# Altium schematic symbol library PFC-120W-Sch-Lib.SchLib: 27 symbols
Pins are listed as number, name and electrical type; pins without a type are passive.

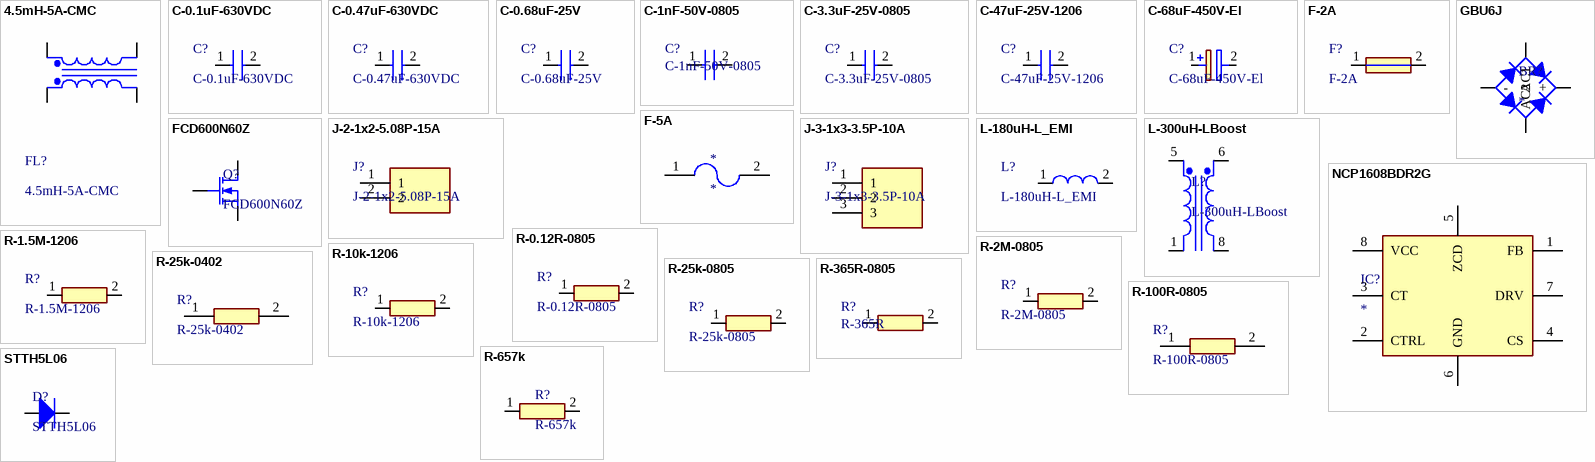
[diagram p0: symbols 4.5mH-5A-CMC to STTH5L06]

## 4.5mH-5A-CMC
designator FL?
Filter; Manufacturer_Name: Kemet; Manufacturer_Part_Number: SC-05-E45JH; Datasheet Link: https://www.mouser.ca/datasheet/2/212/1/KEM_LF0010_SC-JH-1104039.pdf; Height: 21mm; Arrow Part Number: SC-05-E45JH; Mouser Part Number: 80-SC-05-E45JH; Mouser Price/Stock: https://www.mouser.co.uk/ProductDetail/KEMET/SC-05-E45JH?qs=PzGy0jfpSMt0Gme%2FtVncCQ%3D%3D
footprint SC05E45JH
pins: 1, 2, 3, 4

## C-0.1uF-630VDC
designator C?
Capacitor; Manufacturer_Name: Vishay; Manufacturer_Part_Number: BFC233923104; Datasheet Link: https://www.vishay.com/docs/28138/mkp339x2.pdf; Height: 11mm; Arrow Part Number: BFC233923104; Arrow Price/Stock: https://www.arrow.com/en/products/bfc233923104/vishay; Mouser Part Number: 594-2222-339-23104; Mouser Price/Stock: https://www.mouser.co.uk/ProductDetail/Vishay-BC-Components/BFC233923104?qs=ISnuAD7LFbI3phV4%252BcMAWg%3D%3D
footprint BFC233923104
pins: 1, 2

## C-0.47uF-630VDC
designator C?
Capacitor; Manufacturer_Name: Panasonic; Manufacturer_Part_Number: ECW-FA2J474JC; Datasheet Link: https://industrial.panasonic.com/cdbs/www-data/pdf/RDI0000/ABD0000C183.pdf; Height: 16.6mm; Arrow Part Number: ECW-FA2J474JC; Mouser Part Number: N/A; Mouser Price/Stock: https://www.mouser.com/Search/Refine.aspx?Keyword=N%2FA
footprint ECWFA2J474JC
pins: 1, 2

## C-0.68uF-25V
designator C?
Capacitor; Manufacturer_Name: TDK; Manufacturer_Part_Number: C2012X8R1E684K125AC; Datasheet Link: https://product.tdk.com/info/en/catalog/datasheets/mlcc_commercial_midvoltage_en.pdf; Height: 1.45mm; Arrow Part Number: C2012X8R1E684K125AC; Mouser Part Number: 810-C212X8684K125AC; Mouser Price/Stock: https://www.mouser.com/Search/Refine.aspx?Keyword=810-C212X8684K125AC
footprint CAPC2012X145N
pins: 1, 2

## C-1nF-50V-0805
designator C?
Capacitor; Manufacturer_Name: Wurth Elektronik; Manufacturer_Part_Number: 885382207004; Description: Multilayer Ceramic Chip Capacitor WCAP-CSST Series 0805 1000pF X7R0805102K050DFCT1S000; Datasheet Link: https://katalog.we-online.com/pbs/datasheet/885382207004.pdf; Height: 1.35mm; Arrow Part Number: 885382207004; Mouser Part Number: 710-885382207004; Mouser Price/Stock: https://www.mouser.co.uk/ProductDetail/Wurth-Elektronik/885382207004?qs=0lSvoLzn4L%2FZU7nl%252BtmUHg%3D%3D
footprint CAPC2012X135N
pins: 1, 2

## C-3.3uF-25V-0805
designator C?
Capacitor; Manufacturer_Name: TDK; Manufacturer_Part_Number: C2012X7R1E335M125AB; Datasheet Link: https://product.tdk.com/info/en/catalog/datasheets/mlcc_commercial_midvoltage_en.pdf; Height: 1.45mm; Arrow Part Number: C2012X7R1E335M125AB; Mouser Part Number: 810-C2012X7R1E335M; Mouser Price/Stock: https://www.mouser.com/Search/Refine.aspx?Keyword=810-C2012X7R1E335M
footprint CAPC2012X145N
pins: 1, 2

## C-47uF-25V-1206
designator C?
Capacitor; Manufacturer_Name: TDK; Manufacturer_Part_Number: C3216X5R1E476M160AC; Datasheet Link: https://product.tdk.com/info/en/catalog/datasheets/mlcc_commercial_midvoltage_en.pdf; Height: 1.8mm; Arrow Part Number: C3216X5R1E476M160AC; Arrow Price/Stock: https://www.arrow.com/en/products/c3216x5r1e476m160ac/tdk; Mouser Part Number: 810-C3216X5R1E476M; Mouser Price/Stock: https://www.mouser.co.uk/ProductDetail/TDK/C3216X5R1E476M160AC?qs=NRhsANhppD%252BqapdVvBvu4Q%3D%3D
footprint CAPC3216X180N
pins: 1, 2

## C-68uF-450V-El
designator C?
Capacitor Polarised; Manufacturer_Name: Nichicon; Manufacturer_Part_Number: UVY2W680MHD; Datasheet Link: https://www.mouser.in/datasheet/2/293/e-uvy-1315204.pdf; Height: 37.5mm; Arrow Part Number: UVY2W680MHD
footprint CAPPRD750W80D1825H3750
pins: 1 +, 2 -

## F-2A
designator F?
Fuse; Manufacturer_Name: LITTELFUSE; Manufacturer_Part_Number: 0461002.ERT; Datasheet Link: https://www.littelfuse.com/~/media/electronics/datasheets/fuses/littelfuse_fuse_461_datasheet.pdf.pdf; Height: 3.12mm; Arrow Part Number: 0461002.ERT; Mouser Part Number: 576-0461002.ERT; Mouser Price/Stock: https://www.mouser.com/Search/Refine.aspx?Keyword=576-0461002.ERT
footprint FUSC10131X312N
pins: 1, 2

## F-5A
designator *
Fuse
pins: 1, 2

## FCD600N60Z
designator Q?
N-Mosfet; Manufacturer: ON Semiconductor; Datasheet: https://www.onsemi.com/pub/Collateral/FCD600N60Z-D.pdf; Manufacturer Part Number: FCD600N60Z
footprint DPAK-FCD600N60Z
pins: D, G, S

## GBU6J
designator BR?
Bridge Rectifier; Manufacturer_Name: GeneSiC Semiconductor; Manufacturer_Part_Number: GBU6J; Datasheet Link: https://www.diodemodule.com/silicon_products/bridge_rectifiers/gbu6j.pdf; Height: 18.8mm; Arrow Part Number: GBU6J; Arrow Price/Stock: https://www.arrow.com/en/products/gbu6j/genesic-semiconductor; Mouser Part Number: 905-GBU6J; Mouser Price/Stock: https://www.mouser.com/Search/Refine.aspx?Keyword=905-GBU6J
footprint GBU6J
pins: 1 +, 2 AC1, 3 AC2, 4 -

## J-2-1x2-5.08P-15A
designator J?
Connector; Manufacturer_Name: On-Shore Technology; Manufacturer_Part_Number: EDZ250/2; Datasheet Link: https://media.digikey.com/pdf/Data%20Sheets/On%20Shore%20PDFs/EDZ250.pdf; Height: 10mm; Arrow Part Number: EDZ250/2; Arrow Price/Stock: https://www.arrow.com/en/products/edz2502/on-shore-technology
footprint RHDR2W90P0X508_1X2_1066X810X1000P
pins: 1, 2

## J-3-1x3-3.5P-10A
designator J?
Connector; Manufacturer_Name: Wurth Elektronik; Manufacturer_Part_Number: 691214110003; Datasheet Link: https://katalog.we-online.de/em/datasheet/6912141100xx.pdf; Height: 8.5mm; Arrow Part Number: 691214110003; Mouser Part Number: 710-691214110003; Mouser Price/Stock: https://www.mouser.co.uk/ProductDetail/Wurth-Elektronik/691214110003?qs=7gQLVZk5cPlrsv0RXQNEtw%3D%3D
footprint 691214110003
pins: 1, 2, 3

## L-180uH-L_EMI
designator L?
Inductor; Manufacturer_Name: ABRACON; Manufacturer_Part_Number: AIRD-03-181K; Datasheet Link: https://abracon.com/Magnetics/radial/AIRD03.pdf; Height: 21mm; Arrow Part Number: AIRD-03-181K; Mouser Part Number: 815-AIRD-03-181K; Mouser Price/Stock: https://www.mouser.com/Search/Refine.aspx?Keyword=815-AIRD-03-181K
footprint AIRD03181K
pins: 1, 2

## L-300uH-LBoost
designator L?
Inductor; Manufacturer Part Number: PFC3125ER-301K05B-00; Manufacturer: TDK Corporation
footprint L-300uH-LBoost
pins: 1, 5, 6, 8

## NCP1608BDR2G
designator IC?
Integrated Circuit; Manufacturer_Name: ON Semiconductor; Manufacturer_Part_Number: NCP1608BDR2G; Datasheet Link: http://www.onsemi.com/pub/Collateral/NCP1608-D.PDF; Height: 1.75mm; Arrow Part Number: NCP1608BDR2G; Arrow Price/Stock: https://www.arrow.com/en/products/ncp1608bdr2g/on-semiconductor; Mouser Part Number: 863-NCP1608BDR2G; Mouser Price/Stock: https://www.mouser.co.uk/ProductDetail/ON-Semiconductor/NCP1608BDR2G?qs=lYuAOLy5nvYEkEt6P%2FPS%2FA%3D%3D
footprint SOIC127P600X175-8N
pins: 1 FB, 2 CTRL, 3 CT, 4 CS, 5 ZCD, 6 GND (power), 7 DRV, 8 VCC (power)

## R-0.12R-0805
designator R?
Resistor; Manufacturer_Name: YAGEO (PHYCOMP); Manufacturer_Part_Number: RL0805FR-070R12L; Datasheet Link: http://componentsearchengine.com/Datasheets/1/RL0805FR-070R12L.pdf; Height: 0.6mm; Arrow Part Number: RL0805FR-070R12L; Mouser Part Number: 603-RL0805FR-070R12L; Mouser Price/Stock: https://www.mouser.co.uk/ProductDetail/Yageo/RL0805FR-070R12L?qs=BXCcY9r%252B08BjW2juGncMQg%3D%3D
footprint RESC2012X60N
pins: 1, 2

## R-1.5M-1206
designator R?
Resistor; Manufacturer_Name: Vishay; Manufacturer_Part_Number: CRCW12061M50FKEA; Datasheet Link: http://www.vishay.com/docs/20035/dcrcwe3.pdf; Height: 0.6mm; Arrow Part Number: CRCW12061M50FKEA; Mouser Part Number: 71-CRCW1206-1.5M-E3; Mouser Price/Stock: https://www.mouser.com/Search/Refine.aspx?Keyword=71-CRCW1206-1.5M-E3
footprint RESC3216X60N
pins: 1, 2

## R-2M-0805
designator R?
Resistor; Manufacturer_Name: TE Connectivity; Manufacturer_Part_Number: CPF0805B2M0E; Datasheet Link: http://docs-europe.electrocomponents.com/webdocs/13d1/0900766b813d116f.pdf; Height: 0.65mm; Arrow Part Number: CPF0805B2M0E; Arrow Price/Stock: https://www.arrow.com/en/products/cpf0805b2m0e/te-connectivity; Mouser Part Number: 279-CPF0805B2M0E
footprint RESC2012X65N
pins: 1, 2

## R-10k-1206
designator R?
Resistor; Manufacturer_Name: Vishay; Manufacturer_Part_Number: CRCW120610K0FKEB; Datasheet Link: http://componentsearchengine.com/Datasheets/1/CRCW120610K0FKEB.pdf; Height: 0.6mm; Arrow Part Number: CRCW120610K0FKEB; Arrow Price/Stock: https://www.arrow.com/en/products/crcw120610k0fkeb/vishay; Mouser Part Number: 71-CRCW120610K0FKEB; Mouser Price/Stock: https://www.mouser.com/Search/Refine.aspx?Keyword=71-CRCW120610K0FKEB
footprint RESC3216X60N
pins: 1, 2

## R-25k-0402
designator R?
Resistor; Manufacturer_Name: Vishay; Manufacturer_Part_Number: PNM0402E2502BST1; Datasheet Link: http://www.vishay.com/docs/60057/pnm.pdf; Height: 0.838mm; Arrow Part Number: PNM0402E2502BST1; Mouser Part Number: 71-PNM0402E2502BST1; Mouser Price/Stock: https://www.mouser.com/Search/Refine.aspx?Keyword=71-PNM0402E2502BST1
footprint RESC1106X84N
pins: 1, 2

## R-25k-0805
designator R?
Resistor; Manufacturer_Name: TE Connectivity; Manufacturer_Part_Number: CPF-A-0805B25KE1; Datasheet Link: http://docs-emea.rs-online.com/webdocs/13f1/0900766b813f17cd.pdf; Height: 0.65mm; Arrow Part Number: CPF-A-0805B25KE1; Arrow Price/Stock: https://www.arrow.com/en/products/cpf-a-0805b25ke1/te-connectivity; Mouser Part Number: 279-CPF-A-0805B25KE1; Mouser Price/Stock: https://www.mouser.com/Search/Refine.aspx?Keyword=279-CPF-A-0805B25KE1
footprint RESC2012X65N
pins: 1, 2

## R-100R-0805
designator R?
Resistor; Manufacturer_Name: TE Connectivity; Datasheet Link: http://docs-europe.electrocomponents.com/webdocs/13d1/0900766b813d116f.pdf; Height: 0.65mm; Manufacturer_Part_Number: R-100R-0805; Arrow Part Number: CPF0805B100RE1; Arrow Price/Stock: https://www.arrow.com/en/products/cpf0805b100re1/te-connectivity; Mouser Part Number: 279-CPF0805B100RE1; Mouser Price/Stock: https://www.mouser.co.uk/ProductDetail/TE-Connectivity-Neohm/CPF0805B100RE1?qs=9ylKvqdyudkCWLPT1QvLZQ%3D%3D
footprint RESC2012X65N
pins: 1, 2

## R-365R-0805
designator R?, comment R-365R
Resistor; Manufacturer_Name: TE Connectivity; Manufacturer_Part_Number: CPF0805B365RE1; Datasheet Link: http://docs-europe.electrocomponents.com/webdocs/13d1/0900766b813d116f.pdf; Height: 0.65mm; Arrow Part Number: CPF0805B365RE1; Mouser Part Number: 279-CPF0805B365RE1; Mouser Price/Stock: https://www.mouser.com/Search/Refine.aspx?Keyword=279-CPF0805B365RE1
footprint RESC2012X65N
pins: 1, 2

## R-657k
designator R?
Resistor; Manufacturer Part Number: RN73R2ATTD6573D25; Manufacturer: KOA Speer Electronics, Inc.
footprint 0805_RES (Chip Resistor, 2-Leads, Body 2,00x1,25mm, IPC Medium Density)
pins: 1, 2

## STTH5L06
designator D?
Diode; Manufacturer: STMicroelectronics; Manufacturer Part Number: STTH5L06FP
footprint DPAK-STTH5L06
pins: A, K